# Altium schematic symbol library LTPL-A138DWAGB.SchLib: 1 symbol
Pins are listed as number, name and electrical type; pins without a type are passive.

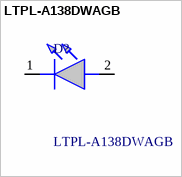
[diagram p0: symbol LTPL-A138DWAGB]

## LTPL-A138DWAGB
designator D?
High Power LEDs - Single Color Top view High Power LED; Manufacturer_Name: Lite-On; Geometry.Height: 0.25mm; Manufacturer_Part_Number: LTPL-A138DWAGB; Mouser Part Number: *; Mouser Price/Stock: *; Arrow Part Number: *; Arrow Price/Stock: *; Datasheet Link: https://www.mouser.com.tr/ProductDetail/Lite-On/LTPL-A138DWAGB?qs=By6Nw2ByBD19OWPRz6%2F8tg%3D%3D&_gl=1*1kqb2vu*_ga*MTYxNzU2NDgwMy4xNjY0MzU4NjYy*_ga_15W4STQT4T*MTcwNjA4MTA4NS4xNS4wLjE3MDYwODEwODYuNTkuMC4w*_ga_1KQLCYKRX3*MTcwNjA4MTA4Ni43LjAuMTcwNjA4MTA4Ni4w
footprint LEDC1010X25N
pins: 1 K, 2 A (power)